# Altium integrated library Linear Technology Power Management Power Control.IntLib: 661 symbols (part 15 of 43)
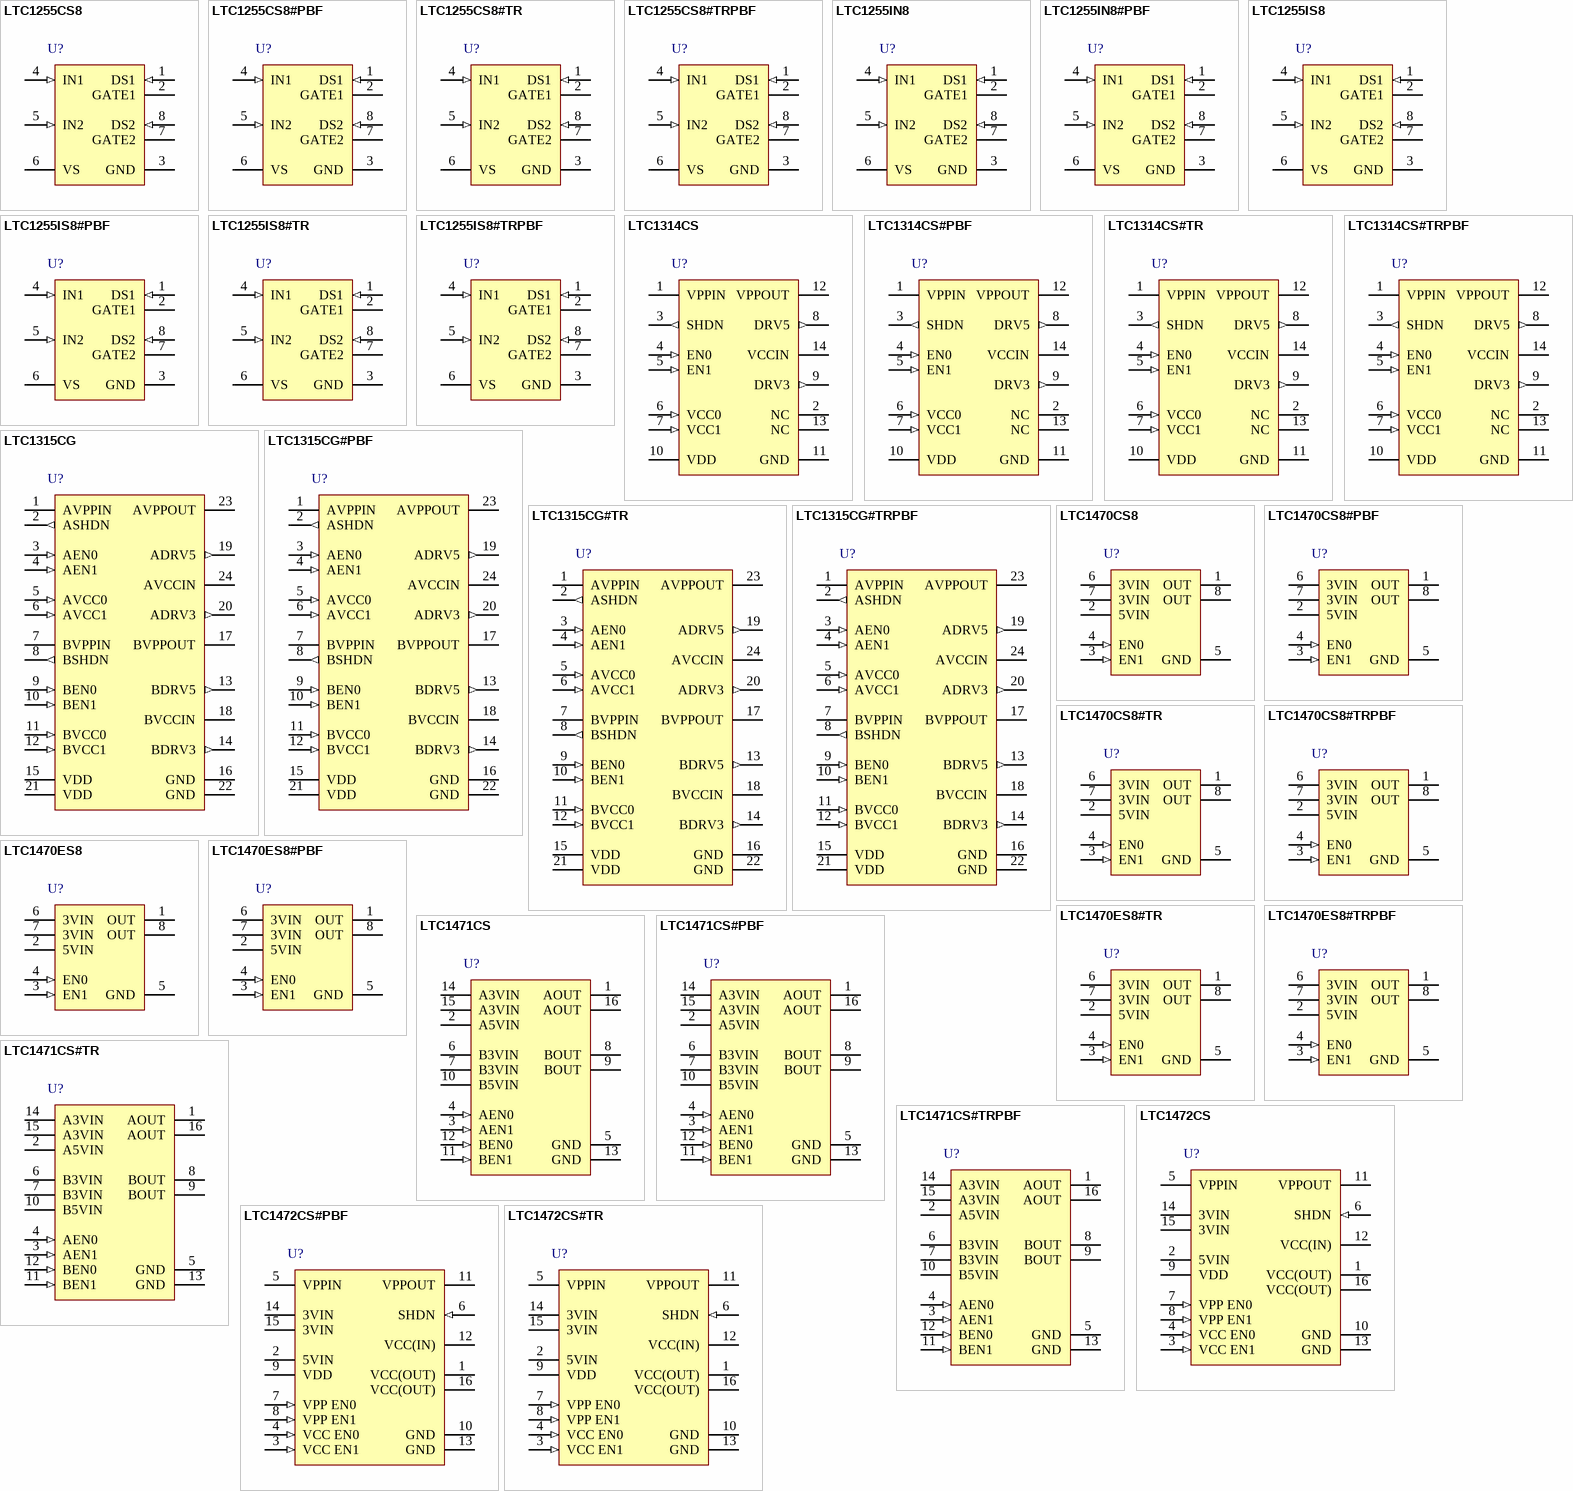
[diagram p33: symbols LTC1255CS8 to LTC1472CS#TR]

## LTC1255CS8
designator U?
Dual 24 V High-Side MOSFET Driver, -0.3 to 30 V Vin, 8-pin SOIC (S8-8), 0 to 70 degC; Manufacturer: Linear Technology; PartNumber: LTC1255CS8; DatasheetVersion: Rev. 0; PackageVersion: Rev. G, 03/2012; PackageReference: S8-8; PackageDescription: 8-Pin Plastic Small Outline (Narrow .150 Inch), Body 4.9 x 3.9 mm, Pitch 1.27 mm; Supplier 1: Digi-Key; Supplier Part Number 1: LTC1255CS8-ND; Supplier 2: Newark; Supplier Part Number 2: 55M9706; RoHS: FALSE; Mounting Technology: Surface Mount; ComponentLink1Description: Manufacturer URL; ComponentLink1URL: http://www.linear.com/; ComponentLink2Description: Datasheet; ComponentLink2URL: http://cds.linear.com/docs/en/datasheet/lt1255.pdf; ComponentLink3Description: Package Specification; ComponentLink3URL: http://cds.linear.com/docs/en/packaging/05081610_G_SO8.pdf
footprint LT-S8-8_N (SOIC, 8-Leads, Body 5x4mm, Pitch 1.27mm, IPC Medium Density)
footprint LT-S8-8_L (SOIC, 8-Leads, Body 5x4mm, Pitch 1.27mm, IPC High Density)
footprint LT-S8-8_M (SOIC, 8-Leads, Body 5x4mm, Pitch 1.27mm, IPC Low Density)
pins: 1 DS1 (in) "The drain sense pin is compared against the supply pin voltage. If the voltage at this pin is more than 100mV below the supply pin, the input latch will be reset and the MOSFET gate will be quickly discharged. Cycle the (See Datasheet)", 2 GATE1 (hiz) "The gate drive pin is either driven to ground when the switch is turned OFF or driven above the supply rail when the switch is turned ON. This pin is of relatively high impedance when driven above the rail (the equivalent of (See Datasheet)", 3 GND (power), 4 IN1 (in) "The LTC1255 input pin is active high and activates all of the protection and charge pump circuitry when switched ON. The LTC1255 logic and shutdown inputs are high impedance CMOS gates with ESD protection diodes to ground (See Datasheet)", 5 IN2 (in) "The LTC1255 input pin is active high and activates all of the protection and charge pump circuitry when switched ON. The LTC1255 logic and shutdown inputs are high impedance CMOS gates with ESD protection diodes to ground (See Datasheet)", 6 VS (power) "The supply pin of the LTC1255 serves two vital purposes. The first is obvious; it powers the input, gate drive, regulation and protection circuitry. The second purpose is less obvious; it provides a Kelvin connection to the (See Datasheet)", 7 GATE2 (hiz) "The gate drive pin is either driven to ground when the switch is turned OFF or driven above the supply rail when the switch is turned ON. This pin is of relatively high impedance when driven above the rail (the equivalent of (See Datasheet)", 8 DS2 (in) "The drain sense pin is compared against the supply pin voltage. If the voltage at this pin is more than 100mV below the supply pin, the input latch will be reset and the MOSFET gate will be quickly discharged. Cycle the (See Datasheet)"

## LTC1255CS8#PBF
designator U?
Dual 24 V High-Side MOSFET Driver, -0.3 to 30 V Vin, 8-pin SOIC (S8-8), 0 to 70 degC, Pb-Free; Manufacturer: Linear Technology; PartNumber: LTC1255CS8#PBF; DatasheetVersion: Rev. 0; PackageVersion: Rev. G, 03/2012; PackageReference: S8-8; PackageDescription: 8-Pin Plastic Small Outline (Narrow .150 Inch), Body 4.9 x 3.9 mm, Pitch 1.27 mm; Supplier 1: Digi-Key; Supplier Part Number 1: LTC1255CS8#PBF-ND; Supplier 2: Farnell; Supplier Part Number 2: 1273511; Supplier 3: Newark; Supplier Part Number 3: 55M9707; RoHS: TRUE; Mounting Technology: Surface Mount; ComponentLink1Description: Manufacturer URL; ComponentLink1URL: http://www.linear.com/; ComponentLink2Description: Datasheet; ComponentLink2URL: http://cds.linear.com/docs/en/datasheet/lt1255.pdf; ComponentLink3Description: Package Specification; ComponentLink3URL: http://cds.linear.com/docs/en/packaging/05081610_G_SO8.pdf
footprint LT-S8-8_N (SOIC, 8-Leads, Body 5x4mm, Pitch 1.27mm, IPC Medium Density)
footprint LT-S8-8_L (SOIC, 8-Leads, Body 5x4mm, Pitch 1.27mm, IPC High Density)
footprint LT-S8-8_M (SOIC, 8-Leads, Body 5x4mm, Pitch 1.27mm, IPC Low Density)
pins: 1 DS1 (in) "The drain sense pin is compared against the supply pin voltage. If the voltage at this pin is more than 100mV below the supply pin, the input latch will be reset and the MOSFET gate will be quickly discharged. Cycle the (See Datasheet)", 2 GATE1 (hiz) "The gate drive pin is either driven to ground when the switch is turned OFF or driven above the supply rail when the switch is turned ON. This pin is of relatively high impedance when driven above the rail (the equivalent of (See Datasheet)", 3 GND (power), 4 IN1 (in) "The LTC1255 input pin is active high and activates all of the protection and charge pump circuitry when switched ON. The LTC1255 logic and shutdown inputs are high impedance CMOS gates with ESD protection diodes to ground (See Datasheet)", 5 IN2 (in) "The LTC1255 input pin is active high and activates all of the protection and charge pump circuitry when switched ON. The LTC1255 logic and shutdown inputs are high impedance CMOS gates with ESD protection diodes to ground (See Datasheet)", 6 VS (power) "The supply pin of the LTC1255 serves two vital purposes. The first is obvious; it powers the input, gate drive, regulation and protection circuitry. The second purpose is less obvious; it provides a Kelvin connection to the (See Datasheet)", 7 GATE2 (hiz) "The gate drive pin is either driven to ground when the switch is turned OFF or driven above the supply rail when the switch is turned ON. This pin is of relatively high impedance when driven above the rail (the equivalent of (See Datasheet)", 8 DS2 (in) "The drain sense pin is compared against the supply pin voltage. If the voltage at this pin is more than 100mV below the supply pin, the input latch will be reset and the MOSFET gate will be quickly discharged. Cycle the (See Datasheet)"

## LTC1255CS8#TR
designator U?
Dual 24 V High-Side MOSFET Driver, -0.3 to 30 V Vin, 8-pin SOIC (S8-8), 0 to 70 degC, Tape and Reel; Manufacturer: Linear Technology; PartNumber: LTC1255CS8#TR; DatasheetVersion: Rev. 0; PackageVersion: Rev. G, 03/2012; PackageReference: S8-8; PackageDescription: 8-Pin Plastic Small Outline (Narrow .150 Inch), Body 4.9 x 3.9 mm, Pitch 1.27 mm; Supplier 1: Digi-Key; Supplier Part Number 1: LTC1255CS8#TR-ND; Packing: Tape and Reel; RoHS: FALSE; Mounting Technology: Surface Mount; ComponentLink1Description: Manufacturer URL; ComponentLink1URL: http://www.linear.com/; ComponentLink2Description: Datasheet; ComponentLink2URL: http://cds.linear.com/docs/en/datasheet/lt1255.pdf; ComponentLink3Description: Package Specification; ComponentLink3URL: http://cds.linear.com/docs/en/packaging/05081610_G_SO8.pdf
footprint LT-S8-8_N (SOIC, 8-Leads, Body 5x4mm, Pitch 1.27mm, IPC Medium Density)
footprint LT-S8-8_L (SOIC, 8-Leads, Body 5x4mm, Pitch 1.27mm, IPC High Density)
footprint LT-S8-8_M (SOIC, 8-Leads, Body 5x4mm, Pitch 1.27mm, IPC Low Density)
pins: 1 DS1 (in) "The drain sense pin is compared against the supply pin voltage. If the voltage at this pin is more than 100mV below the supply pin, the input latch will be reset and the MOSFET gate will be quickly discharged. Cycle the (See Datasheet)", 2 GATE1 (hiz) "The gate drive pin is either driven to ground when the switch is turned OFF or driven above the supply rail when the switch is turned ON. This pin is of relatively high impedance when driven above the rail (the equivalent of (See Datasheet)", 3 GND (power), 4 IN1 (in) "The LTC1255 input pin is active high and activates all of the protection and charge pump circuitry when switched ON. The LTC1255 logic and shutdown inputs are high impedance CMOS gates with ESD protection diodes to ground (See Datasheet)", 5 IN2 (in) "The LTC1255 input pin is active high and activates all of the protection and charge pump circuitry when switched ON. The LTC1255 logic and shutdown inputs are high impedance CMOS gates with ESD protection diodes to ground (See Datasheet)", 6 VS (power) "The supply pin of the LTC1255 serves two vital purposes. The first is obvious; it powers the input, gate drive, regulation and protection circuitry. The second purpose is less obvious; it provides a Kelvin connection to the (See Datasheet)", 7 GATE2 (hiz) "The gate drive pin is either driven to ground when the switch is turned OFF or driven above the supply rail when the switch is turned ON. This pin is of relatively high impedance when driven above the rail (the equivalent of (See Datasheet)", 8 DS2 (in) "The drain sense pin is compared against the supply pin voltage. If the voltage at this pin is more than 100mV below the supply pin, the input latch will be reset and the MOSFET gate will be quickly discharged. Cycle the (See Datasheet)"

## LTC1255CS8#TRPBF
designator U?
Dual 24 V High-Side MOSFET Driver, -0.3 to 30 V Vin, 8-pin SOIC (S8-8), 0 to 70 degC, Pb-Free, Tape and Reel; Manufacturer: Linear Technology; PartNumber: LTC1255CS8#TRPBF; DatasheetVersion: Rev. 0; PackageVersion: Rev. G, 03/2012; PackageReference: S8-8; PackageDescription: 8-Pin Plastic Small Outline (Narrow .150 Inch), Body 4.9 x 3.9 mm, Pitch 1.27 mm; Supplier 1: Digi-Key; Supplier Part Number 1: LTC1255CS8#TRPBF-ND; Supplier 2: Newark; Supplier Part Number 2: 55M9709; Packing: Tape and Reel; RoHS: TRUE; Mounting Technology: Surface Mount; ComponentLink1Description: Manufacturer URL; ComponentLink1URL: http://www.linear.com/; ComponentLink2Description: Datasheet; ComponentLink2URL: http://cds.linear.com/docs/en/datasheet/lt1255.pdf; ComponentLink3Description: Package Specification; ComponentLink3URL: http://cds.linear.com/docs/en/packaging/05081610_G_SO8.pdf
footprint LT-S8-8_N (SOIC, 8-Leads, Body 5x4mm, Pitch 1.27mm, IPC Medium Density)
footprint LT-S8-8_L (SOIC, 8-Leads, Body 5x4mm, Pitch 1.27mm, IPC High Density)
footprint LT-S8-8_M (SOIC, 8-Leads, Body 5x4mm, Pitch 1.27mm, IPC Low Density)
pins: 1 DS1 (in) "The drain sense pin is compared against the supply pin voltage. If the voltage at this pin is more than 100mV below the supply pin, the input latch will be reset and the MOSFET gate will be quickly discharged. Cycle the (See Datasheet)", 2 GATE1 (hiz) "The gate drive pin is either driven to ground when the switch is turned OFF or driven above the supply rail when the switch is turned ON. This pin is of relatively high impedance when driven above the rail (the equivalent of (See Datasheet)", 3 GND (power), 4 IN1 (in) "The LTC1255 input pin is active high and activates all of the protection and charge pump circuitry when switched ON. The LTC1255 logic and shutdown inputs are high impedance CMOS gates with ESD protection diodes to ground (See Datasheet)", 5 IN2 (in) "The LTC1255 input pin is active high and activates all of the protection and charge pump circuitry when switched ON. The LTC1255 logic and shutdown inputs are high impedance CMOS gates with ESD protection diodes to ground (See Datasheet)", 6 VS (power) "The supply pin of the LTC1255 serves two vital purposes. The first is obvious; it powers the input, gate drive, regulation and protection circuitry. The second purpose is less obvious; it provides a Kelvin connection to the (See Datasheet)", 7 GATE2 (hiz) "The gate drive pin is either driven to ground when the switch is turned OFF or driven above the supply rail when the switch is turned ON. This pin is of relatively high impedance when driven above the rail (the equivalent of (See Datasheet)", 8 DS2 (in) "The drain sense pin is compared against the supply pin voltage. If the voltage at this pin is more than 100mV below the supply pin, the input latch will be reset and the MOSFET gate will be quickly discharged. Cycle the (See Datasheet)"

## LTC1255IN8
designator U?
Dual 24 V High-Side MOSFET Driver, -0.3 to 30 V Vin, 8-pin DIP (N8-8), -40 to 85 degC; Manufacturer: Linear Technology; PartNumber: LTC1255IN8; DatasheetVersion: Rev. 0; PackageVersion: Rev. I, 07/2011; PackageReference: N8-8; PackageDescription: 8-Pin PDIP, Body 10.16 x 6.48 mm, Pitch 2.54 mm; Supplier 1: Digi-Key; Supplier Part Number 1: LTC1255IN8-ND; RoHS: FALSE; Mounting Technology: Through Hole; ComponentLink1Description: Manufacturer URL; ComponentLink1URL: http://www.linear.com/; ComponentLink2Description: Datasheet; ComponentLink2URL: http://cds.linear.com/docs/en/datasheet/lt1255.pdf; ComponentLink3Description: Package Specification; ComponentLink3URL: http://www.linear.com/docs/en/packaging/05081510_I_N8.pdf
footprint LT-N8-8 (DIP, 8-Leads, Body 10.15x6.85mm, Pitch 2.54mm)
pins: 1 DS1 (in) "The drain sense pin is compared against the supply pin voltage. If the voltage at this pin is more than 100mV below the supply pin, the input latch will be reset and the MOSFET gate will be quickly discharged. Cycle the (See Datasheet)", 2 GATE1 (hiz) "The gate drive pin is either driven to ground when the switch is turned OFF or driven above the supply rail when the switch is turned ON. This pin is of relatively high impedance when driven above the rail (the equivalent of (See Datasheet)", 3 GND (power), 4 IN1 (in) "The LTC1255 input pin is active high and activates all of the protection and charge pump circuitry when switched ON. The LTC1255 logic and shutdown inputs are high impedance CMOS gates with ESD protection diodes to ground (See Datasheet)", 5 IN2 (in) "The LTC1255 input pin is active high and activates all of the protection and charge pump circuitry when switched ON. The LTC1255 logic and shutdown inputs are high impedance CMOS gates with ESD protection diodes to ground (See Datasheet)", 6 VS (power) "The supply pin of the LTC1255 serves two vital purposes. The first is obvious; it powers the input, gate drive, regulation and protection circuitry. The second purpose is less obvious; it provides a Kelvin connection to the (See Datasheet)", 7 GATE2 (hiz) "The gate drive pin is either driven to ground when the switch is turned OFF or driven above the supply rail when the switch is turned ON. This pin is of relatively high impedance when driven above the rail (the equivalent of (See Datasheet)", 8 DS2 (in) "The drain sense pin is compared against the supply pin voltage. If the voltage at this pin is more than 100mV below the supply pin, the input latch will be reset and the MOSFET gate will be quickly discharged. Cycle the (See Datasheet)"

## LTC1255IN8#PBF
designator U?
Dual 24 V High-Side MOSFET Driver, -0.3 to 30 V Vin, 8-pin DIP (N8-8), -40 to 85 degC, Pb-Free; Manufacturer: Linear Technology; PartNumber: LTC1255IN8#PBF; DatasheetVersion: Rev. 0; PackageVersion: Rev. I, 07/2011; PackageReference: N8-8; PackageDescription: 8-Pin PDIP, Body 10.16 x 6.48 mm, Pitch 2.54 mm; Supplier 1: Digi-Key; Supplier Part Number 1: LTC1255IN8#PBF-ND; RoHS: TRUE; Mounting Technology: Through Hole; ComponentLink1Description: Manufacturer URL; ComponentLink1URL: http://www.linear.com/; ComponentLink2Description: Datasheet; ComponentLink2URL: http://cds.linear.com/docs/en/datasheet/lt1255.pdf; ComponentLink3Description: Package Specification; ComponentLink3URL: http://www.linear.com/docs/en/packaging/05081510_I_N8.pdf
footprint LT-N8-8 (DIP, 8-Leads, Body 10.15x6.85mm, Pitch 2.54mm)
pins: 1 DS1 (in) "The drain sense pin is compared against the supply pin voltage. If the voltage at this pin is more than 100mV below the supply pin, the input latch will be reset and the MOSFET gate will be quickly discharged. Cycle the (See Datasheet)", 2 GATE1 (hiz) "The gate drive pin is either driven to ground when the switch is turned OFF or driven above the supply rail when the switch is turned ON. This pin is of relatively high impedance when driven above the rail (the equivalent of (See Datasheet)", 3 GND (power), 4 IN1 (in) "The LTC1255 input pin is active high and activates all of the protection and charge pump circuitry when switched ON. The LTC1255 logic and shutdown inputs are high impedance CMOS gates with ESD protection diodes to ground (See Datasheet)", 5 IN2 (in) "The LTC1255 input pin is active high and activates all of the protection and charge pump circuitry when switched ON. The LTC1255 logic and shutdown inputs are high impedance CMOS gates with ESD protection diodes to ground (See Datasheet)", 6 VS (power) "The supply pin of the LTC1255 serves two vital purposes. The first is obvious; it powers the input, gate drive, regulation and protection circuitry. The second purpose is less obvious; it provides a Kelvin connection to the (See Datasheet)", 7 GATE2 (hiz) "The gate drive pin is either driven to ground when the switch is turned OFF or driven above the supply rail when the switch is turned ON. This pin is of relatively high impedance when driven above the rail (the equivalent of (See Datasheet)", 8 DS2 (in) "The drain sense pin is compared against the supply pin voltage. If the voltage at this pin is more than 100mV below the supply pin, the input latch will be reset and the MOSFET gate will be quickly discharged. Cycle the (See Datasheet)"

## LTC1255IS8
designator U?
Dual 24 V High-Side MOSFET Driver, -0.3 to 30 V Vin, 8-pin SOIC (S8-8), -40 to 85 degC; Manufacturer: Linear Technology; PartNumber: LTC1255IS8; DatasheetVersion: Rev. 0; PackageVersion: Rev. G, 03/2012; PackageReference: S8-8; PackageDescription: 8-Pin Plastic Small Outline (Narrow .150 Inch), Body 4.9 x 3.9 mm, Pitch 1.27 mm; Supplier 1: Digi-Key; Supplier Part Number 1: LTC1255IS8-ND; Supplier 2: Newark; Supplier Part Number 2: 55M9712; RoHS: FALSE; Mounting Technology: Surface Mount; ComponentLink1Description: Manufacturer URL; ComponentLink1URL: http://www.linear.com/; ComponentLink2Description: Datasheet; ComponentLink2URL: http://cds.linear.com/docs/en/datasheet/lt1255.pdf; ComponentLink3Description: Package Specification; ComponentLink3URL: http://cds.linear.com/docs/en/packaging/05081610_G_SO8.pdf
footprint LT-S8-8_N (SOIC, 8-Leads, Body 5x4mm, Pitch 1.27mm, IPC Medium Density)
footprint LT-S8-8_L (SOIC, 8-Leads, Body 5x4mm, Pitch 1.27mm, IPC High Density)
footprint LT-S8-8_M (SOIC, 8-Leads, Body 5x4mm, Pitch 1.27mm, IPC Low Density)
pins: 1 DS1 (in) "The drain sense pin is compared against the supply pin voltage. If the voltage at this pin is more than 100mV below the supply pin, the input latch will be reset and the MOSFET gate will be quickly discharged. Cycle the (See Datasheet)", 2 GATE1 (hiz) "The gate drive pin is either driven to ground when the switch is turned OFF or driven above the supply rail when the switch is turned ON. This pin is of relatively high impedance when driven above the rail (the equivalent of (See Datasheet)", 3 GND (power), 4 IN1 (in) "The LTC1255 input pin is active high and activates all of the protection and charge pump circuitry when switched ON. The LTC1255 logic and shutdown inputs are high impedance CMOS gates with ESD protection diodes to ground (See Datasheet)", 5 IN2 (in) "The LTC1255 input pin is active high and activates all of the protection and charge pump circuitry when switched ON. The LTC1255 logic and shutdown inputs are high impedance CMOS gates with ESD protection diodes to ground (See Datasheet)", 6 VS (power) "The supply pin of the LTC1255 serves two vital purposes. The first is obvious; it powers the input, gate drive, regulation and protection circuitry. The second purpose is less obvious; it provides a Kelvin connection to the (See Datasheet)", 7 GATE2 (hiz) "The gate drive pin is either driven to ground when the switch is turned OFF or driven above the supply rail when the switch is turned ON. This pin is of relatively high impedance when driven above the rail (the equivalent of (See Datasheet)", 8 DS2 (in) "The drain sense pin is compared against the supply pin voltage. If the voltage at this pin is more than 100mV below the supply pin, the input latch will be reset and the MOSFET gate will be quickly discharged. Cycle the (See Datasheet)"

## LTC1255IS8#PBF
designator U?
Dual 24 V High-Side MOSFET Driver, -0.3 to 30 V Vin, 8-pin SOIC (S8-8), -40 to 85 degC, Pb-Free; Manufacturer: Linear Technology; PartNumber: LTC1255IS8#PBF; DatasheetVersion: Rev. 0; PackageVersion: Rev. G, 03/2012; PackageReference: S8-8; PackageDescription: 8-Pin Plastic Small Outline (Narrow .150 Inch), Body 4.9 x 3.9 mm, Pitch 1.27 mm; Supplier 1: Digi-Key; Supplier Part Number 1: LTC1255IS8#PBF-ND; Supplier 2: Newark; Supplier Part Number 2: 55M9713; RoHS: TRUE; Mounting Technology: Surface Mount; ComponentLink1Description: Manufacturer URL; ComponentLink1URL: http://www.linear.com/; ComponentLink2Description: Datasheet; ComponentLink2URL: http://cds.linear.com/docs/en/datasheet/lt1255.pdf; ComponentLink3Description: Package Specification; ComponentLink3URL: http://cds.linear.com/docs/en/packaging/05081610_G_SO8.pdf
footprint LT-S8-8_N (SOIC, 8-Leads, Body 5x4mm, Pitch 1.27mm, IPC Medium Density)
footprint LT-S8-8_L (SOIC, 8-Leads, Body 5x4mm, Pitch 1.27mm, IPC High Density)
footprint LT-S8-8_M (SOIC, 8-Leads, Body 5x4mm, Pitch 1.27mm, IPC Low Density)
pins: 1 DS1 (in) "The drain sense pin is compared against the supply pin voltage. If the voltage at this pin is more than 100mV below the supply pin, the input latch will be reset and the MOSFET gate will be quickly discharged. Cycle the (See Datasheet)", 2 GATE1 (hiz) "The gate drive pin is either driven to ground when the switch is turned OFF or driven above the supply rail when the switch is turned ON. This pin is of relatively high impedance when driven above the rail (the equivalent of (See Datasheet)", 3 GND (power), 4 IN1 (in) "The LTC1255 input pin is active high and activates all of the protection and charge pump circuitry when switched ON. The LTC1255 logic and shutdown inputs are high impedance CMOS gates with ESD protection diodes to ground (See Datasheet)", 5 IN2 (in) "The LTC1255 input pin is active high and activates all of the protection and charge pump circuitry when switched ON. The LTC1255 logic and shutdown inputs are high impedance CMOS gates with ESD protection diodes to ground (See Datasheet)", 6 VS (power) "The supply pin of the LTC1255 serves two vital purposes. The first is obvious; it powers the input, gate drive, regulation and protection circuitry. The second purpose is less obvious; it provides a Kelvin connection to the (See Datasheet)", 7 GATE2 (hiz) "The gate drive pin is either driven to ground when the switch is turned OFF or driven above the supply rail when the switch is turned ON. This pin is of relatively high impedance when driven above the rail (the equivalent of (See Datasheet)", 8 DS2 (in) "The drain sense pin is compared against the supply pin voltage. If the voltage at this pin is more than 100mV below the supply pin, the input latch will be reset and the MOSFET gate will be quickly discharged. Cycle the (See Datasheet)"

## LTC1255IS8#TR
designator U?
Dual 24 V High-Side MOSFET Driver, -0.3 to 30 V Vin, 8-pin SOIC (S8-8), -40 to 85 degC, Tape and Reel; Manufacturer: Linear Technology; PartNumber: LTC1255IS8#TR; DatasheetVersion: Rev. 0; PackageVersion: Rev. G, 03/2012; PackageReference: S8-8; PackageDescription: 8-Pin Plastic Small Outline (Narrow .150 Inch), Body 4.9 x 3.9 mm, Pitch 1.27 mm; Supplier 1: Digi-Key; Supplier Part Number 1: LTC1255IS8#TR-ND; Packing: Tape and Reel; RoHS: FALSE; Mounting Technology: Surface Mount; ComponentLink1Description: Manufacturer URL; ComponentLink1URL: http://www.linear.com/; ComponentLink2Description: Datasheet; ComponentLink2URL: http://cds.linear.com/docs/en/datasheet/lt1255.pdf; ComponentLink3Description: Package Specification; ComponentLink3URL: http://cds.linear.com/docs/en/packaging/05081610_G_SO8.pdf
footprint LT-S8-8_N (SOIC, 8-Leads, Body 5x4mm, Pitch 1.27mm, IPC Medium Density)
footprint LT-S8-8_L (SOIC, 8-Leads, Body 5x4mm, Pitch 1.27mm, IPC High Density)
footprint LT-S8-8_M (SOIC, 8-Leads, Body 5x4mm, Pitch 1.27mm, IPC Low Density)
pins: 1 DS1 (in) "The drain sense pin is compared against the supply pin voltage. If the voltage at this pin is more than 100mV below the supply pin, the input latch will be reset and the MOSFET gate will be quickly discharged. Cycle the (See Datasheet)", 2 GATE1 (hiz) "The gate drive pin is either driven to ground when the switch is turned OFF or driven above the supply rail when the switch is turned ON. This pin is of relatively high impedance when driven above the rail (the equivalent of (See Datasheet)", 3 GND (power), 4 IN1 (in) "The LTC1255 input pin is active high and activates all of the protection and charge pump circuitry when switched ON. The LTC1255 logic and shutdown inputs are high impedance CMOS gates with ESD protection diodes to ground (See Datasheet)", 5 IN2 (in) "The LTC1255 input pin is active high and activates all of the protection and charge pump circuitry when switched ON. The LTC1255 logic and shutdown inputs are high impedance CMOS gates with ESD protection diodes to ground (See Datasheet)", 6 VS (power) "The supply pin of the LTC1255 serves two vital purposes. The first is obvious; it powers the input, gate drive, regulation and protection circuitry. The second purpose is less obvious; it provides a Kelvin connection to the (See Datasheet)", 7 GATE2 (hiz) "The gate drive pin is either driven to ground when the switch is turned OFF or driven above the supply rail when the switch is turned ON. This pin is of relatively high impedance when driven above the rail (the equivalent of (See Datasheet)", 8 DS2 (in) "The drain sense pin is compared against the supply pin voltage. If the voltage at this pin is more than 100mV below the supply pin, the input latch will be reset and the MOSFET gate will be quickly discharged. Cycle the (See Datasheet)"

## LTC1255IS8#TRPBF
designator U?
Dual 24 V High-Side MOSFET Driver, -0.3 to 30 V Vin, 8-pin SOIC (S8-8), -40 to 85 degC, Pb-Free, Tape and Reel; Manufacturer: Linear Technology; PartNumber: LTC1255IS8#TRPBF; DatasheetVersion: Rev. 0; PackageVersion: Rev. G, 03/2012; PackageReference: S8-8; PackageDescription: 8-Pin Plastic Small Outline (Narrow .150 Inch), Body 4.9 x 3.9 mm, Pitch 1.27 mm; Supplier 1: Digi-Key; Supplier Part Number 1: LTC1255IS8#TRPBF-ND; Supplier 2: Newark; Supplier Part Number 2: 55M9715; Packing: Tape and Reel; RoHS: TRUE; Mounting Technology: Surface Mount; ComponentLink1Description: Manufacturer URL; ComponentLink1URL: http://www.linear.com/; ComponentLink2Description: Datasheet; ComponentLink2URL: http://cds.linear.com/docs/en/datasheet/lt1255.pdf; ComponentLink3Description: Package Specification; ComponentLink3URL: http://cds.linear.com/docs/en/packaging/05081610_G_SO8.pdf
footprint LT-S8-8_N (SOIC, 8-Leads, Body 5x4mm, Pitch 1.27mm, IPC Medium Density)
footprint LT-S8-8_L (SOIC, 8-Leads, Body 5x4mm, Pitch 1.27mm, IPC High Density)
footprint LT-S8-8_M (SOIC, 8-Leads, Body 5x4mm, Pitch 1.27mm, IPC Low Density)
pins: 1 DS1 (in) "The drain sense pin is compared against the supply pin voltage. If the voltage at this pin is more than 100mV below the supply pin, the input latch will be reset and the MOSFET gate will be quickly discharged. Cycle the (See Datasheet)", 2 GATE1 (hiz) "The gate drive pin is either driven to ground when the switch is turned OFF or driven above the supply rail when the switch is turned ON. This pin is of relatively high impedance when driven above the rail (the equivalent of (See Datasheet)", 3 GND (power), 4 IN1 (in) "The LTC1255 input pin is active high and activates all of the protection and charge pump circuitry when switched ON. The LTC1255 logic and shutdown inputs are high impedance CMOS gates with ESD protection diodes to ground (See Datasheet)", 5 IN2 (in) "The LTC1255 input pin is active high and activates all of the protection and charge pump circuitry when switched ON. The LTC1255 logic and shutdown inputs are high impedance CMOS gates with ESD protection diodes to ground (See Datasheet)", 6 VS (power) "The supply pin of the LTC1255 serves two vital purposes. The first is obvious; it powers the input, gate drive, regulation and protection circuitry. The second purpose is less obvious; it provides a Kelvin connection to the (See Datasheet)", 7 GATE2 (hiz) "The gate drive pin is either driven to ground when the switch is turned OFF or driven above the supply rail when the switch is turned ON. This pin is of relatively high impedance when driven above the rail (the equivalent of (See Datasheet)", 8 DS2 (in) "The drain sense pin is compared against the supply pin voltage. If the voltage at this pin is more than 100mV below the supply pin, the input latch will be reset and the MOSFET gate will be quickly discharged. Cycle the (See Datasheet)"

## LTC1314CS
designator U?
Internal Drivers for Vcc MOSFETs, 4.5 to 5.5 V Vin, 14-pin SOIC (S-14), 0 to 70 degC; Manufacturer: Linear Technology; PartNumber: LTC1314CS; PackageVersion: Rev. G, 03/2012; PackageReference: S-14; PackageDescription: 14-Pin Plastic Small Outline, Body 8.65 x 3.9 mm, Pitch 1.27 mm; Supplier 1: Digi-Key; Supplier Part Number 1: LTC1314CS-ND; RoHS: FALSE; Mounting Technology: Surface Mount; ComponentLink1Description: Manufacturer URL; ComponentLink1URL: http://www.linear.com/; ComponentLink2Description: Datasheet; ComponentLink2URL: http://cds.linear.com/docs/en/datasheet/lt1314.pdf; ComponentLink3Description: Package Specification; ComponentLink3URL: http://cds.linear.com/docs/en/packaging/05081610_G_S14.pdf
footprint LT-S-14_N (SOIC, 14-Leads, Body 8.7x4mm, Pitch 1.27mm, IPC Medium Density)
footprint LT-S-14_L (SOIC, 14-Leads, Body 8.7x4mm, Pitch 1.27mm, IPC High Density)
footprint LT-S-14_M (SOIC, 14-Leads, Body 8.7x4mm, Pitch 1.27mm, IPC Low Density)
pins: 1 VPPIN (power) "12V Power Inputs.", 2 NC "Not Connected.", 3 SHDN (out) "Shutdown Outputs. When the output is high, the external 12V regulator can be shut down to conserve power consumption.", 4 EN0 (in) "Logic inputs that control the voltage output on VPPOUT. The input thresholds are compatible with TTL/CMOS levels. Refer to Truth Table.", 5 EN1 (in) "Logic inputs that control the voltage output on VPPOUT. The input thresholds are compatible with TTL/CMOS levels. Refer to Truth Table.", 6 VCC0 (in) "Logic input that controls the state of the MOSFET gate driver DRV3. ESD protection device limits input excursions to 0.6V below ground.", 7 VCC1 (in) "Logic input that controls the state of the MOSFET gate driver DRV5. ESD protection device limits input excursions to 0.6V below ground.", 8 DRV5 (out) "Gate driver outputs that control the external MOSFETs that switch the VCC pin of card slot to Hi-Z, 3.3V, or 5V.", 9 DRV3 (out) "Gate driver outputs that control the external MOSFETs that switch the VCC pin of card slot to Hi-Z, 3.3V, or 5V.", 10 VDD (power) "Positive Supply, 4.5V <= VDD <= 5.5V. This pin supplies the power to the control logic and the charge pumps and must be continuously powered.", 11 GND (power) "Ground Connection.", 12 VPPOUT (hiz) "Switched output that provides 0V, 3.3V, 5V, 12V, or Hi-Z to the VPP pin of the card slot. Refer to Truth Table.", 13 NC "Not Connected.", 14 VCCIN (power) "5V or 3.3V Power Input."

## LTC1314CS#PBF
designator U?
Internal Drivers for Vcc MOSFETs, 4.5 to 5.5 V Vin, 14-pin SOIC (S-14), 0 to 70 degC, Pb-Free; Manufacturer: Linear Technology; PartNumber: LTC1314CS#PBF; PackageVersion: Rev. G, 03/2012; PackageReference: S-14; PackageDescription: 14-Pin Plastic Small Outline, Body 8.65 x 3.9 mm, Pitch 1.27 mm; Supplier 1: Digi-Key; Supplier Part Number 1: LTC1314CS#PBF-ND; RoHS: TRUE; Mounting Technology: Surface Mount; ComponentLink1Description: Manufacturer URL; ComponentLink1URL: http://www.linear.com/; ComponentLink2Description: Datasheet; ComponentLink2URL: http://cds.linear.com/docs/en/datasheet/lt1314.pdf; ComponentLink3Description: Package Specification; ComponentLink3URL: http://cds.linear.com/docs/en/packaging/05081610_G_S14.pdf
footprint LT-S-14_N (SOIC, 14-Leads, Body 8.7x4mm, Pitch 1.27mm, IPC Medium Density)
footprint LT-S-14_L (SOIC, 14-Leads, Body 8.7x4mm, Pitch 1.27mm, IPC High Density)
footprint LT-S-14_M (SOIC, 14-Leads, Body 8.7x4mm, Pitch 1.27mm, IPC Low Density)
pins: 1 VPPIN (power) "12V Power Inputs.", 2 NC "Not Connected.", 3 SHDN (out) "Shutdown Outputs. When the output is high, the external 12V regulator can be shut down to conserve power consumption.", 4 EN0 (in) "Logic inputs that control the voltage output on VPPOUT. The input thresholds are compatible with TTL/CMOS levels. Refer to Truth Table.", 5 EN1 (in) "Logic inputs that control the voltage output on VPPOUT. The input thresholds are compatible with TTL/CMOS levels. Refer to Truth Table.", 6 VCC0 (in) "Logic input that controls the state of the MOSFET gate driver DRV3. ESD protection device limits input excursions to 0.6V below ground.", 7 VCC1 (in) "Logic input that controls the state of the MOSFET gate driver DRV5. ESD protection device limits input excursions to 0.6V below ground.", 8 DRV5 (out) "Gate driver outputs that control the external MOSFETs that switch the VCC pin of card slot to Hi-Z, 3.3V, or 5V.", 9 DRV3 (out) "Gate driver outputs that control the external MOSFETs that switch the VCC pin of card slot to Hi-Z, 3.3V, or 5V.", 10 VDD (power) "Positive Supply, 4.5V <= VDD <= 5.5V. This pin supplies the power to the control logic and the charge pumps and must be continuously powered.", 11 GND (power) "Ground Connection.", 12 VPPOUT (hiz) "Switched output that provides 0V, 3.3V, 5V, 12V, or Hi-Z to the VPP pin of the card slot. Refer to Truth Table.", 13 NC "Not Connected.", 14 VCCIN (power) "5V or 3.3V Power Input."

## LTC1314CS#TR
designator U?
Internal Drivers for Vcc MOSFETs, 4.5 to 5.5 V Vin, 14-pin SOIC (S-14), 0 to 70 degC, Tape and Reel; Manufacturer: Linear Technology; PartNumber: LTC1314CS#TR; PackageVersion: Rev. G, 03/2012; PackageReference: S-14; PackageDescription: 14-Pin Plastic Small Outline, Body 8.65 x 3.9 mm, Pitch 1.27 mm; Supplier 1: Digi-Key; Supplier Part Number 1: LTC1314CS#TR-ND; Packing: Tape and Reel; RoHS: FALSE; Mounting Technology: Surface Mount; ComponentLink1Description: Manufacturer URL; ComponentLink1URL: http://www.linear.com/; ComponentLink2Description: Datasheet; ComponentLink2URL: http://cds.linear.com/docs/en/datasheet/lt1314.pdf; ComponentLink3Description: Package Specification; ComponentLink3URL: http://cds.linear.com/docs/en/packaging/05081610_G_S14.pdf
footprint LT-S-14_N (SOIC, 14-Leads, Body 8.7x4mm, Pitch 1.27mm, IPC Medium Density)
footprint LT-S-14_L (SOIC, 14-Leads, Body 8.7x4mm, Pitch 1.27mm, IPC High Density)
footprint LT-S-14_M (SOIC, 14-Leads, Body 8.7x4mm, Pitch 1.27mm, IPC Low Density)
pins: 1 VPPIN (power) "12V Power Inputs.", 2 NC "Not Connected.", 3 SHDN (out) "Shutdown Outputs. When the output is high, the external 12V regulator can be shut down to conserve power consumption.", 4 EN0 (in) "Logic inputs that control the voltage output on VPPOUT. The input thresholds are compatible with TTL/CMOS levels. Refer to Truth Table.", 5 EN1 (in) "Logic inputs that control the voltage output on VPPOUT. The input thresholds are compatible with TTL/CMOS levels. Refer to Truth Table.", 6 VCC0 (in) "Logic input that controls the state of the MOSFET gate driver DRV3. ESD protection device limits input excursions to 0.6V below ground.", 7 VCC1 (in) "Logic input that controls the state of the MOSFET gate driver DRV5. ESD protection device limits input excursions to 0.6V below ground.", 8 DRV5 (out) "Gate driver outputs that control the external MOSFETs that switch the VCC pin of card slot to Hi-Z, 3.3V, or 5V.", 9 DRV3 (out) "Gate driver outputs that control the external MOSFETs that switch the VCC pin of card slot to Hi-Z, 3.3V, or 5V.", 10 VDD (power) "Positive Supply, 4.5V <= VDD <= 5.5V. This pin supplies the power to the control logic and the charge pumps and must be continuously powered.", 11 GND (power) "Ground Connection.", 12 VPPOUT (hiz) "Switched output that provides 0V, 3.3V, 5V, 12V, or Hi-Z to the VPP pin of the card slot. Refer to Truth Table.", 13 NC "Not Connected.", 14 VCCIN (power) "5V or 3.3V Power Input."

## LTC1314CS#TRPBF
designator U?
Internal Drivers for Vcc MOSFETs, 4.5 to 5.5 V Vin, 14-pin SOIC (S-14), 0 to 70 degC, Pb-Free, Tape and Reel; Manufacturer: Linear Technology; PartNumber: LTC1314CS#TRPBF; PackageVersion: Rev. G, 03/2012; PackageReference: S-14; PackageDescription: 14-Pin Plastic Small Outline, Body 8.65 x 3.9 mm, Pitch 1.27 mm; Supplier 1: Digi-Key; Supplier Part Number 1: LTC1314CS#TRPBF-ND; Packing: Tape and Reel; RoHS: TRUE; Mounting Technology: Surface Mount; ComponentLink1Description: Manufacturer URL; ComponentLink1URL: http://www.linear.com/; ComponentLink2Description: Datasheet; ComponentLink2URL: http://cds.linear.com/docs/en/datasheet/lt1314.pdf; ComponentLink3Description: Package Specification; ComponentLink3URL: http://cds.linear.com/docs/en/packaging/05081610_G_S14.pdf
footprint LT-S-14_N (SOIC, 14-Leads, Body 8.7x4mm, Pitch 1.27mm, IPC Medium Density)
footprint LT-S-14_L (SOIC, 14-Leads, Body 8.7x4mm, Pitch 1.27mm, IPC High Density)
footprint LT-S-14_M (SOIC, 14-Leads, Body 8.7x4mm, Pitch 1.27mm, IPC Low Density)
pins: 1 VPPIN (power) "12V Power Inputs.", 2 NC "Not Connected.", 3 SHDN (out) "Shutdown Outputs. When the output is high, the external 12V regulator can be shut down to conserve power consumption.", 4 EN0 (in) "Logic inputs that control the voltage output on VPPOUT. The input thresholds are compatible with TTL/CMOS levels. Refer to Truth Table.", 5 EN1 (in) "Logic inputs that control the voltage output on VPPOUT. The input thresholds are compatible with TTL/CMOS levels. Refer to Truth Table.", 6 VCC0 (in) "Logic input that controls the state of the MOSFET gate driver DRV3. ESD protection device limits input excursions to 0.6V below ground.", 7 VCC1 (in) "Logic input that controls the state of the MOSFET gate driver DRV5. ESD protection device limits input excursions to 0.6V below ground.", 8 DRV5 (out) "Gate driver outputs that control the external MOSFETs that switch the VCC pin of card slot to Hi-Z, 3.3V, or 5V.", 9 DRV3 (out) "Gate driver outputs that control the external MOSFETs that switch the VCC pin of card slot to Hi-Z, 3.3V, or 5V.", 10 VDD (power) "Positive Supply, 4.5V <= VDD <= 5.5V. This pin supplies the power to the control logic and the charge pumps and must be continuously powered.", 11 GND (power) "Ground Connection.", 12 VPPOUT (hiz) "Switched output that provides 0V, 3.3V, 5V, 12V, or Hi-Z to the VPP pin of the card slot. Refer to Truth Table.", 13 NC "Not Connected.", 14 VCCIN (power) "5V or 3.3V Power Input."

## LTC1315CG
designator U?
Internal Drivers for Vcc MOSFETs, 4.5 to 5.5 V Vin, 24-pin SOP (G-24), 0 to 70 degC; Manufacturer: Linear Technology; PartNumber: LTC1315CG; PackageVersion: Jun-10; PackageReference: G-24; PackageDescription: 24-Pin Plastic SSOP, Body 8.2 x 5.3 mm, Pitch 0.65 mm; RoHS: FALSE; Mounting Technology: Surface Mount; ComponentLink1Description: Manufacturer URL; ComponentLink1URL: http://www.linear.com/; ComponentLink2Description: Datasheet; ComponentLink2URL: http://cds.linear.com/docs/en/datasheet/lt1314.pdf; ComponentLink3Description: Package Specification; ComponentLink3URL: http://cds.linear.com/docs/en/packaging/SSOP_24_05-08-1640.pdf
footprint LT-G-24_N (SOP, 24-Leads, Body 8.5x5.6mm, Pitch 0.65mm, IPC Medium Density)
footprint LT-G-24_L (SOP, 24-Leads, Body 8.5x5.6mm, Pitch 0.65mm, IPC High Density)
footprint LT-G-24_M (SOP, 24-Leads, Body 8.5x5.6mm, Pitch 0.65mm, IPC Low Density)
pins: 1 AVPPIN (power) "12 V Power Input.", 2 ASHDN (out) "Shutdown Output. When the output is high, the external 12 V regulator can be shut down to conserve power consumption.", 3 AEN0 (in) "Logic input that control the voltage output on VPP OUT . The input thresholds are compatible with TTL / CMOS level. Refer to the Truth Table.", 4 AEN1 (in) "Logic input that control the voltage output on VPP OUT . The input thresholds are compatible with TTL / CMOS level. Refer to the Truth Table.", 5 AVCC0 (in) "Logic input that control the state of the MOSFET gate driver DRV3. ESD protection device limits input excursions to 0.6 V below ground.", 6 AVCC1 (in) "Logic input that control the state of the MOSFET gate driver DRV5. ESD protection device limits input excursions to 0.6 V below ground.", 7 BVPPIN (power) "12 V Power Input.", 8 BSHDN (out) "Shutdown Output. When the output is high, the external 12 V regulator can be shut down to conserve power consumption.", 9 BEN0 (in) "Logic input that control the voltage output on VPP OUT . The input thresholds are compatible with TTL / CMOS level. Refer to the Truth Table.", 10 BEN1 (in) "Logic input that control the voltage output on VPP OUT . The input thresholds are compatible with TTL / CMOS level. Refer to the Truth Table.", 11 BVCC0 (in) "Logic input that control the state of the MOSFET gate driver DRV3. ESD protection device limits input excursions to 0.6 V below ground.", 12 BVCC1 (in) "Logic input that control the state of the MOSFET gate driver DRV5. ESD protection device limits input excursions to 0.6 V below ground.", 13 BDRV5 (out) "Gate driver output that control the external MOSFETs that switch the VCC pin of card slot to Hi-Z, 3.3 V, or 5 V.", 14 BDRV3 (out) "Gate driver output that control the external MOSFETs that switch the VCC pin of card slot to Hi-Z, 3.3 V, or 5 V.", 15 VDD (power) "Positive Supply, 4.5 V <= VDD <= 5.5 V. This pin supply the power to the control logic and the charge pumps and must be continuously powered.", 16 GND (power) "Ground Connection.", 17 BVPPOUT (power) "Switched output that provide 0 V, 3.3 V, 5 V, 12 V, or Hi-Z to the VPP pin of the card slot. Refer to the Truth Table.", 18 BVCCIN (power) "5 V or 3.3 V Power Input.", 19 ADRV5 (out) "Gate driver output that control the external MOSFETs that switch the VCC pin of card slot to Hi-Z, 3.3 V, or 5 V.", 20 ADRV3 (out) "Gate driver output that control the external MOSFETs that switch the VCC pin of card slot to Hi-Z, 3.3 V, or 5 V.", 21 VDD (power) "Positive Supply, 4.5 V <= V DD <= 5.5 V. These pins supply the power to the control logic and the charge pumps and must be continuously powered.", 22 GND (power) "Ground Connection.", 23 AVPPOUT (power) "Switched output that provide 0 V, 3.3 V, 5 V, 12 V, or Hi-Z to the VPP pin of the card slot. Refer to the Truth Table.", 24 AVCCIN (power) "5 V or 3.3 V Power Input."

## LTC1315CG#PBF
designator U?
Internal Drivers for Vcc MOSFETs, 4.5 to 5.5 V Vin, 24-pin SOP (G-24), 0 to 70 degC, Pb-Free; Manufacturer: Linear Technology; PartNumber: LTC1315CG#PBF; PackageVersion: Jun-10; PackageReference: G-24; PackageDescription: 24-Pin Plastic SSOP, Body 8.2 x 5.3 mm, Pitch 0.65 mm; Supplier 1: Digi-Key; Supplier Part Number 1: LTC1315CG#PBF-ND; RoHS: TRUE; Mounting Technology: Surface Mount; ComponentLink1Description: Manufacturer URL; ComponentLink1URL: http://www.linear.com/; ComponentLink2Description: Datasheet; ComponentLink2URL: http://cds.linear.com/docs/en/datasheet/lt1314.pdf; ComponentLink3Description: Package Specification; ComponentLink3URL: http://cds.linear.com/docs/en/packaging/SSOP_24_05-08-1640.pdf
footprint LT-G-24_N (SOP, 24-Leads, Body 8.5x5.6mm, Pitch 0.65mm, IPC Medium Density)
footprint LT-G-24_L (SOP, 24-Leads, Body 8.5x5.6mm, Pitch 0.65mm, IPC High Density)
footprint LT-G-24_M (SOP, 24-Leads, Body 8.5x5.6mm, Pitch 0.65mm, IPC Low Density)
pins: 1 AVPPIN (power) "12 V Power Input.", 2 ASHDN (out) "Shutdown Output. When the output is high, the external 12 V regulator can be shut down to conserve power consumption.", 3 AEN0 (in) "Logic input that control the voltage output on VPP OUT . The input thresholds are compatible with TTL / CMOS level. Refer to the Truth Table.", 4 AEN1 (in) "Logic input that control the voltage output on VPP OUT . The input thresholds are compatible with TTL / CMOS level. Refer to the Truth Table.", 5 AVCC0 (in) "Logic input that control the state of the MOSFET gate driver DRV3. ESD protection device limits input excursions to 0.6 V below ground.", 6 AVCC1 (in) "Logic input that control the state of the MOSFET gate driver DRV5. ESD protection device limits input excursions to 0.6 V below ground.", 7 BVPPIN (power) "12 V Power Input.", 8 BSHDN (out) "Shutdown Output. When the output is high, the external 12 V regulator can be shut down to conserve power consumption.", 9 BEN0 (in) "Logic input that control the voltage output on VPP OUT . The input thresholds are compatible with TTL / CMOS level. Refer to the Truth Table.", 10 BEN1 (in) "Logic input that control the voltage output on VPP OUT . The input thresholds are compatible with TTL / CMOS level. Refer to the Truth Table.", 11 BVCC0 (in) "Logic input that control the state of the MOSFET gate driver DRV3. ESD protection device limits input excursions to 0.6 V below ground.", 12 BVCC1 (in) "Logic input that control the state of the MOSFET gate driver DRV5. ESD protection device limits input excursions to 0.6 V below ground.", 13 BDRV5 (out) "Gate driver output that control the external MOSFETs that switch the VCC pin of card slot to Hi-Z, 3.3 V, or 5 V.", 14 BDRV3 (out) "Gate driver output that control the external MOSFETs that switch the VCC pin of card slot to Hi-Z, 3.3 V, or 5 V.", 15 VDD (power) "Positive Supply, 4.5 V <= VDD <= 5.5 V. This pin supply the power to the control logic and the charge pumps and must be continuously powered.", 16 GND (power) "Ground Connection.", 17 BVPPOUT (power) "Switched output that provide 0 V, 3.3 V, 5 V, 12 V, or Hi-Z to the VPP pin of the card slot. Refer to the Truth Table.", 18 BVCCIN (power) "5 V or 3.3 V Power Input.", 19 ADRV5 (out) "Gate driver output that control the external MOSFETs that switch the VCC pin of card slot to Hi-Z, 3.3 V, or 5 V.", 20 ADRV3 (out) "Gate driver output that control the external MOSFETs that switch the VCC pin of card slot to Hi-Z, 3.3 V, or 5 V.", 21 VDD (power) "Positive Supply, 4.5 V <= V DD <= 5.5 V. These pins supply the power to the control logic and the charge pumps and must be continuously powered.", 22 GND (power) "Ground Connection.", 23 AVPPOUT (power) "Switched output that provide 0 V, 3.3 V, 5 V, 12 V, or Hi-Z to the VPP pin of the card slot. Refer to the Truth Table.", 24 AVCCIN (power) "5 V or 3.3 V Power Input."